# Altium schematic symbol library Components - 09.11.23 - 23.00.SchLib: 1 symbol
Pins are listed as number, name and electrical type; pins without a type are passive.

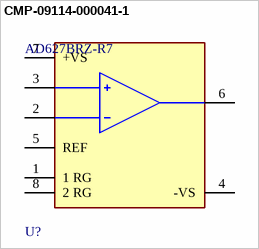
[diagram p0: symbol CMP-09114-000041-1]

## CMP-09114-000041-1
designator U?, comment AD627BRZ-R7
IC INST AMP 1 CIRCUIT 8SOIC; Power Supply Rejection Ratio (PSRR): 110dB; Slew Rate: 0.05V/µs; Number of Channels: 1; Max Power Dissipation: 800mW; Bandwidth: 30kHz; Voltage Gain: 60dB; -3db Bandwidth: 80kHz; Nominal Supply Current: 85uA; Max Dual Supply Voltage: 18V; Output Current per Channel: 25mA; Input Resistance: 20GR; Common Mode Rejection Ratio: 77dB; Max Supply Voltage: 36V; Min Dual Supply Voltage: 1.1V; Operating Supply Voltage: 7.5V; Input Offset Voltage (Vos): 50uV; Input Bias Current: 10nA; Min Supply Voltage: 2.2V; Number of Elements: 1; Number of Pins: 8; Radiation Hardening: No; Package Quantity: 1; Series: -; Packaging: Tape and Reel; Supply Current: 85uA; Mount: Surface Mount; Max Operating Temperature: 85°C; Case/Package: SOIC; Lead Free: Contains Lead; Operating Supply Current: 85uA; RoHS Compliant: Yes; Min Operating Temperature: -40°C; Power Dissipation: 800mW; Number of Circuits: 1
footprint FP-R-8-IPC_A
footprint FP-R-8-IPC_C
footprint FP-R-8-IPC_B
pins: 1 1 RG, 2 -IN (hiz), 3 +IN (hiz), 4 -VS (power), 5 REF, 6 OUTPUT, 7 +VS (power), 8 2 RG